# Altium footprint library acopians-powerspy-ac-power-hw-library-pcb.PcbLib: 43 footprints (part 2 of 3)
Each footprint in its own frame and in the unit in brackets; x right, y up, seen from the top. Pads: shape width x height; smd on the part's side, far side on the other; paste and mask are expansions set on the pad; w line width, h text height; cw(c..) or ccw(c..) is an arc to the next point about the centre after c.
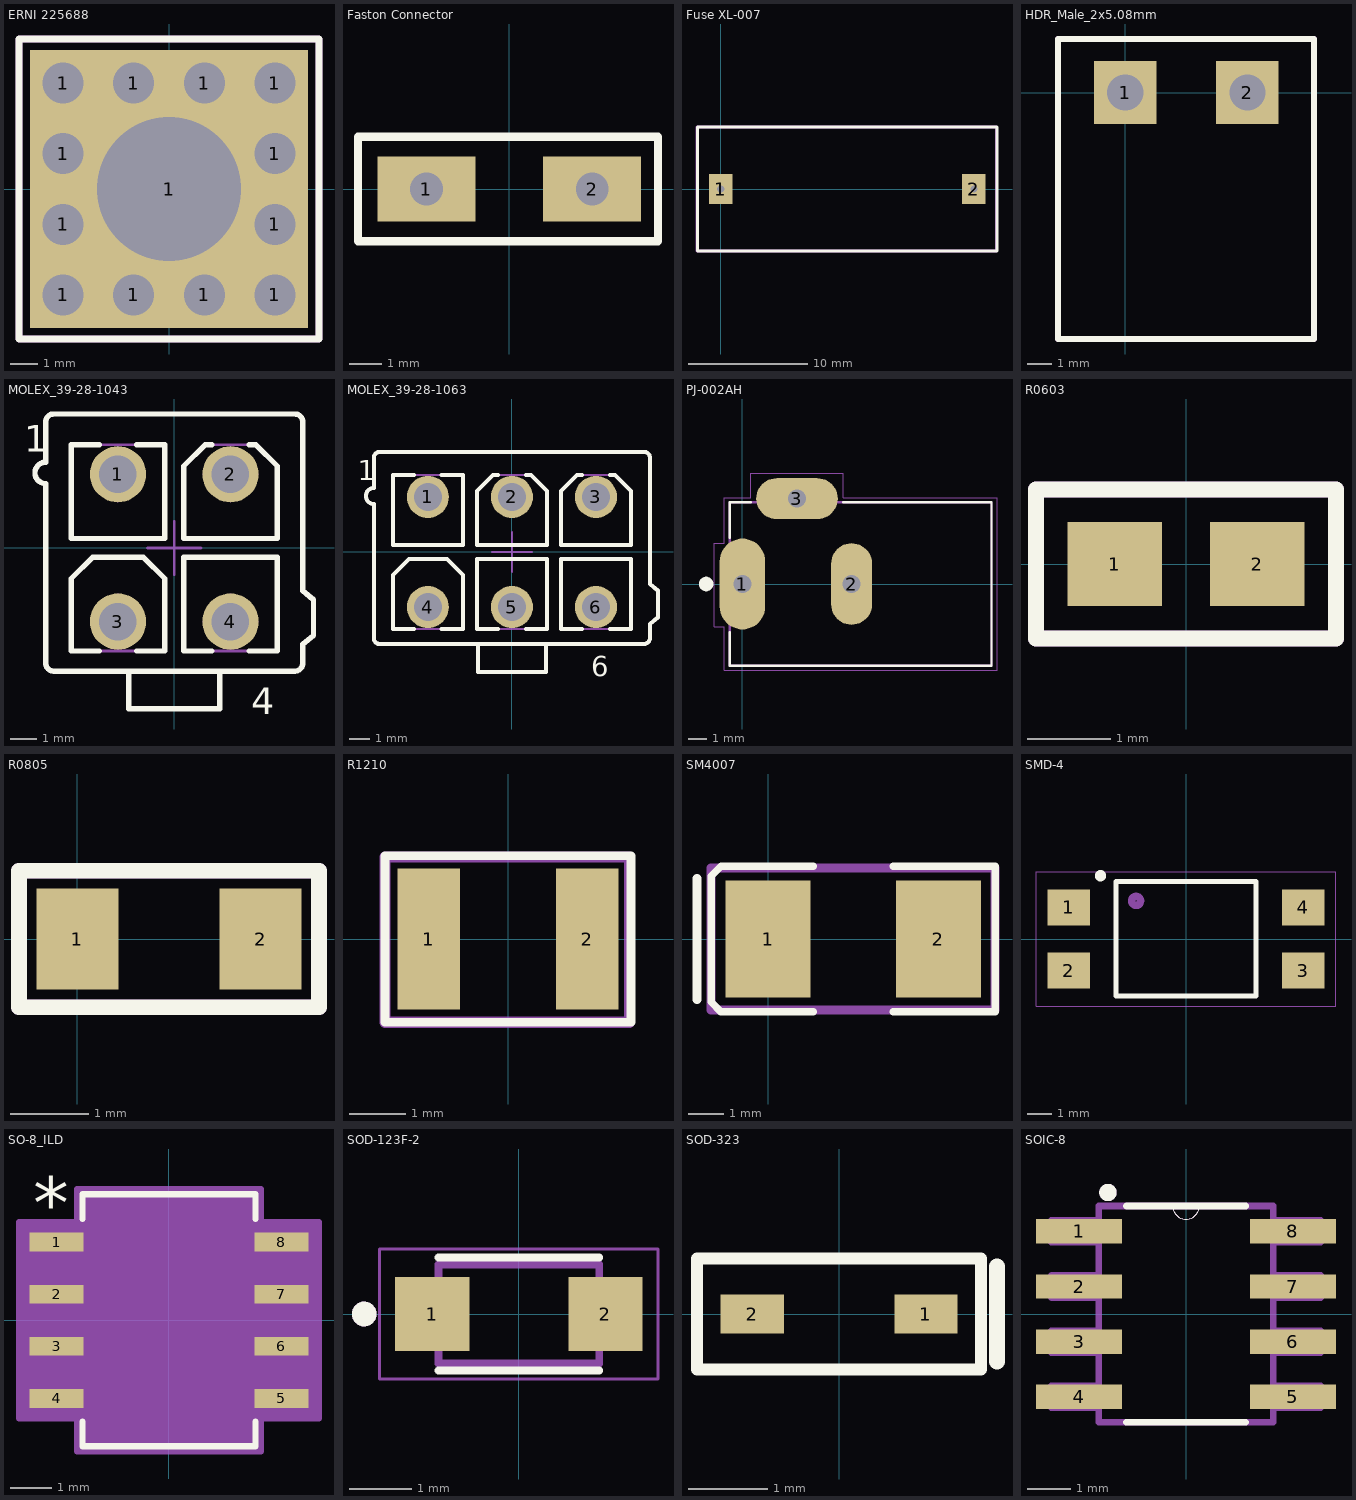
[diagram p1: the footprints below, top view; thin cyan lines are the x and y axes]

## ERNI 225688 [mm]
pads (13):
  round 2 hole 1.475: 1(-3.81,-3.81) 1(-3.81,-1.27) 1(-3.81,1.27) 1(-3.81,3.81) 1(-1.27,-3.81) 1(-1.27,3.81) 1(1.27,-3.81) 1(1.27,3.81) 1(3.81,-3.81) 1(3.81,-1.27) 1(3.81,1.27) 1(3.81,3.81)
  rect 10x10 hole 5.2 unplated: 1(0,0)
Top Overlay:
  lines w0.254: -5.4,-5.4 -5.4,5.4 5.4,5.4 5.4,-5.4 -5.4,-5.4
Mechanical 13:
  lines w0.254: -5.4,-5.4 5.4,-5.4 5.4,5.4 -5.4,5.4 -5.4,-5.4
  text ".Designator" at -0.046,-0.246 h1.2
3D body "225688_I.STEP": height 6, standoff -3.5, extent -4.5,-4.5 4.5,4.5

## Faston Connector [mm]
pads (2):
  rect 3x2 hole 1 square: 1(-2.54,0) 2(2.54,0)
Top Overlay:
  lines w0.254: -4.64,-1.6 -4.64,1.6 4.56,1.6 4.56,-1.6 -4.64,-1.6
Mechanical 13:
  text ".Designator" at 0,0.033 h1
3D body "c-726386-2-g-3d.stp": height 10.45, standoff -3.55, extent -4,-0.4 4,0.4

## Fuse XL-007 [mm]
pads (2):
  rect 2x2.5 hole 0.6 square paste-2539.97 mask+0.102: 1(0,0) 2(21.3,0)
Top Overlay:
  lines w0.254: -1.95,-5.2 23.25,-5.2 23.25,5.2 -1.95,5.2 -1.95,-5.2
Mechanical 13:
  lines w0.254: -2,-5.2 -2,5.2 23.2,5.2 23.2,-5.2 -2,-5.2
  text ".Designator" at 6.754,-0.879 h1.4
3D body "ZH242.STEP": height 11.2, standoff -5.5, extent -1.7,-4.875 23,4.875

## HDR_Male_2x5.08mm [mm]
pads (2):
  rect 2.6x2.6 hole 1.5: 1(0,0) 2(5.075,0)
Top Overlay:
  lines w0.254: -2.8,-10.25 7.85,-10.25 7.85,2.225 -2.8,2.225 -2.8,-10.25
Mechanical 13:
  text ".Designator" at 1.778,-5.207 h1.52
Mechanical 29:
  circle w0.7: c0,0 r0.292
  lines w0.254: -2.8,-10.25 -2.8,2.225 7.85,2.225 7.85,-10.25 -2.8,-10.25
  text "'.Designator'" at -0.35,-5 h1.5
3D body "Pluggable Terminal Blocks_2 vias_male.stp": height 8.51, standoff -3.49, extent -2.54,-10 7.62,2

## MOLEX_39-28-1043 [mm] "4.20mm (.165\") Pitch Mini-Fit Jr. Header, Dual Row, Vertical, without Snap-in Plastic Peg PCB Lock, 4 Circuits"
height 12.8
pads (4):
  round 2.1 hole 1.4: 1(-2.1,2.75) 2(2.1,2.75) 3(-2.1,-2.75) 4(2.1,-2.75)
Top Overlay:
  lines w0.2: -2.793,-3.85 -3.85,-3.85 -3.85,-1.15 ; -2.793,3.85 -3.85,3.85 -3.85,0.35 -0.35,0.35 -0.35,3.85 -1.407,3.85 ; -1.7,-4.6 -1.7,-6 1.7,-6 1.7,-4.6 ; -1.407,-3.85 -0.35,-3.85 -0.35,-1.15 -1.15,-0.35 -3.05,-0.35 ; 1.407,-3.85 0.35,-3.85 0.35,-0.35 3.85,-0.35 3.85,-3.85 2.793,-3.85 ; 1.407,3.85 1.15,3.85 ; 2.793,3.85 3.05,3.85 3.85,3.05 3.85,0.35 0.35,0.35 0.35,3.05 ; -3.85,-1.15 -3.05,-0.35 ; -3.85,-1.15 -3.05,-0.35 ; 0.35,3.05 1.15,3.85 ; 0.35,3.05 1.15,3.85 ; -4.8,-4.3 ccw(c-4.5,-4.3) -4.5,-4.6 4.5,-4.6 ccw(c4.5,-4.3) 4.8,-4.3 4.8,-3.6 5.2,-3.264 5.2,-1.936 4.8,-1.6 4.8,4.7 ccw(c4.5,4.7) 4.5,5 -4.5,5 ccw(c-4.5,4.7) -4.8,4.7 -4.8,3.2 ccw(c-4.8,2.8) -4.8,2.4 -4.8,-4.3
  text "4" at 2.867,-6.2 h1
  text "1" at -5.592,3.582 h1
Mechanical 8:
  lines w0.1: -3.1,-2.75 -2.1,-2.75 ; -3.1,2.75 -2.1,2.75 ; -2.1,-3.75 -2.1,-2.75 ; -2.1,-1.75 -2.1,-2.75 ; -2.1,1.75 -2.1,2.75 ; -2.1,3.75 -2.1,2.75 ; -1.1,-2.75 -2.1,-2.75 ; -1.1,2.75 -2.1,2.75 ; -1,0 0,0 ; 0,-1 0,0 ; 0,1 0,0 ; 1,0 0,0 ; 1.1,-2.75 2.1,-2.75 ; 1.1,2.75 2.1,2.75 ; 2.1,-3.75 2.1,-2.75 ; 2.1,-1.75 2.1,-2.75 ; 2.1,1.75 2.1,2.75 ; 2.1,3.75 2.1,2.75 ; 3.1,-2.75 2.1,-2.75 ; 3.1,2.75 2.1,2.75
Mechanical 13:
  text ".Designator" at -1.546,-1.146 h1.5
Mechanical 14:
  lines w0.1: -1.7,-4.6 -1.7,-6 1.7,-6 1.7,-4.6 ; -3.85,-1.15 -3.05,-0.35 ; -3.85,-1.15 -3.85,-3.85 -0.35,-3.85 -0.35,-1.15 -1.15,-0.35 -3.05,-0.35 ; -3.85,-1.15 -3.05,-0.35 ; 0.35,3.05 1.15,3.85 ; 0.35,3.05 0.35,0.35 3.85,0.35 3.85,3.05 3.05,3.85 1.15,3.85 ; 0.35,3.05 1.15,3.85 ; -4.8,-4.3 ccw(c-4.5,-4.3) -4.5,-4.6 4.5,-4.6 ccw(c4.5,-4.3) 4.8,-4.3 4.8,-3.6 5.2,-3.264 5.2,-1.936 4.8,-1.6 4.8,4.7 ccw(c4.5,4.7) 4.5,5 -4.5,5 ccw(c-4.5,4.7) -4.8,4.7 -4.8,3.2 ccw(c-4.8,2.8) -4.8,2.4 -4.8,-4.3 ; -3.85,0.35 -0.35,0.35 -0.35,3.85 -3.85,3.85 -3.85,0.35 ; 0.35,-3.85 3.85,-3.85 3.85,-0.35 0.35,-0.35 0.35,-3.85
  text "4" at 2.867,-6.2 h1
  text "1" at -5.592,3.582 h1
3D body "MOLEX_39-28-1043.stp": height 12.8, standoff -3.5, extent -5.2,-6 5.2,5

## MOLEX_39-28-1063 [mm] "4.20mm (.165\") Pitch Mini-Fit Jr. Header, Dual Row, Vertical, without Snap-in Plastic Peg PCB Lock, 6 Circuits"
height 12.8
pads (6):
  round 2.1 hole 1.4: 1(-4.2,2.75) 2(0,2.75) 3(4.2,2.75) 4(-4.2,-2.75) 5(0,-2.75) 6(4.2,-2.75)
Top Overlay:
  lines w0.2: -4.893,-3.85 -5.95,-3.85 -5.95,-1.15 -5.15,-0.35 -3.25,-0.35 -2.45,-1.15 -2.45,-3.85 -3.507,-3.85 ; -4.893,3.85 -5.95,3.85 -5.95,0.35 -2.45,0.35 -2.45,3.85 -3.507,3.85 ; -1.7,-4.6 -1.7,-6 1.7,-6 1.7,-4.6 ; -0.693,-3.85 -1.75,-3.85 -1.75,-0.35 1.75,-0.35 1.75,-3.85 0.693,-3.85 ; -0.693,3.85 -0.95,3.85 -1.75,3.05 -1.75,0.35 1.75,0.35 1.75,3.05 0.95,3.85 0.693,3.85 ; 3.507,-3.85 2.45,-3.85 2.45,-0.35 5.95,-0.35 5.95,-3.85 4.893,-3.85 ; 3.507,3.85 3.25,3.85 2.45,3.05 2.45,0.35 5.95,0.35 5.95,3.05 5.15,3.85 4.893,3.85 ; -6.9,-4.3 ccw(c-6.6,-4.3) -6.6,-4.6 6.6,-4.6 ccw(c6.6,-4.3) 6.9,-4.3 6.9,-3.6 7.3,-3.264 7.3,-1.936 6.9,-1.6 6.9,4.7 ccw(c6.6,4.7) 6.6,5 -6.6,5 ccw(c-6.6,4.7) -6.9,4.7 -6.9,3.2 ccw(c-6.9,2.8) -6.9,2.4 -6.9,-4.3
  text "6" at 3.967,-6.2 h1
  text "1" at -7.692,3.582 h1
Mechanical 8:
  lines w0.1: -5.2,-2.75 -4.2,-2.75 ; -5.2,2.75 -4.2,2.75 ; -4.2,-3.75 -4.2,-2.75 ; -4.2,-1.75 -4.2,-2.75 ; -4.2,1.75 -4.2,2.75 ; -4.2,3.75 -4.2,2.75 ; -3.2,-2.75 -4.2,-2.75 ; -3.2,2.75 -4.2,2.75 ; -1,-2.75 0,-2.75 ; -1,0 0,0 ; -1,2.75 0,2.75 ; 0,-3.75 0,-2.75 ; 0,-1.75 0,-2.75 ; 0,-1 0,0 ; 0,1 0,0 ; 0,1.75 0,2.75 ; 0,3.75 0,2.75 ; 1,-2.75 0,-2.75 ; 1,0 0,0 ; 1,2.75 0,2.75 ; 3.2,-2.75 4.2,-2.75 ; 3.2,2.75 4.2,2.75 ; 4.2,-3.75 4.2,-2.75 ; 4.2,-1.75 4.2,-2.75 ; 4.2,1.75 4.2,2.75 ; 4.2,3.75 4.2,2.75 ; 5.2,-2.75 4.2,-2.75 ; 5.2,2.75 4.2,2.75
Mechanical 13:
  text ".Designator" at -1.646,-1.046 h1.5
Mechanical 14:
  lines w0.1: -1.7,-4.6 -1.7,-6 1.7,-6 1.7,-4.6 ; -6.9,-4.3 ccw(c-6.6,-4.3) -6.6,-4.6 6.6,-4.6 ccw(c6.6,-4.3) 6.9,-4.3 6.9,-3.6 7.3,-3.264 7.3,-1.936 6.9,-1.6 6.9,4.7 ccw(c6.6,4.7) 6.6,5 -6.6,5 ccw(c-6.6,4.7) -6.9,4.7 -6.9,3.2 ccw(c-6.9,2.8) -6.9,2.4 -6.9,-4.3 ; -5.95,-3.85 -2.45,-3.85 -2.45,-1.15 -3.25,-0.35 -5.15,-0.35 -5.95,-1.15 -5.95,-3.85 ; -5.95,0.35 -2.45,0.35 -2.45,3.85 -5.95,3.85 -5.95,0.35 ; -1.75,-3.85 1.75,-3.85 1.75,-0.35 -1.75,-0.35 -1.75,-3.85 ; -1.75,0.35 1.75,0.35 1.75,3.05 0.95,3.85 -0.95,3.85 -1.75,3.05 -1.75,0.35 ; 2.45,-3.85 5.95,-3.85 5.95,-0.35 2.45,-0.35 2.45,-3.85 ; 2.45,0.35 5.95,0.35 5.95,3.05 5.15,3.85 3.25,3.85 2.45,3.05 2.45,0.35
  text "6" at 3.967,-6.2 h1
  text "1" at -7.692,3.582 h1
3D body "MOLEX_39-28-1063.stp": height 12.8, standoff -3.5, extent -7.3,-6 7.3,5

## PJ-002AH [mm]
pads (3):
  oval 2.5x5 hole 1 square: 1(0,0)
  oval 2.25x4.5 hole 1 square: 2(6,0)
  oval 4.5x2.25 hole 1 square: 3(3,4.7)
Top Overlay:
  circle w0.4: c-2,0 r0.2
  lines w0.127: -0.7,-2.65 -0.7,-4.5 13.7,-4.5 13.7,4.5 5.55,4.5 ; -0.7,2.55 -0.7,4.5 0.45,4.5
Mechanical 13:
  lines w0.127: -0.7,-4.5 13.7,-4.5 13.7,4.5 -0.7,4.5 -0.7,-4.5
  text ".Designator" at 3.054,-0.746 h1.2
Mechanical 15:
  lines w0.05: -1.55,-2.35 -1.55,2.25 -1,2.25 -1,4.75 0.45,4.75 0.45,6.1 5.55,6.1 5.55,4.75 14,4.75 14,-4.75 -1,-4.75 -1,-2.35 -1.55,-2.35
3D body "CUI_DEVICES_PJ-002AH.step": height 11.01, standoff -3.48, extent -0.723,-4.574 13.677,4.826

## R0603 [mil]
pads (2):
  rect 45x40 smd: 1(-33.97,0) 2(33.97,0)
Top Overlay:
  lines w7.5: -71.37,-35.5 -71.37,35.5 0,35.5 71.36,35.5 71.36,-35.5 0,-35.5 -71.37,-35.5
Mechanical 13:
  text ".Designator" at -300,-110.01 h60
Mechanical 29:
  lines w7.5: -71.37,-35.5 0,-35.5 71.36,-35.5 71.36,35.5 0,35.5 -71.37,35.5 -71.37,-35.5
3D body "0603 SMD Resistor.STP": height 20.39, standoff 0.71, extent -31.49,-17.71 31.5,17.72

## R0805 [mm]
pads (2):
  rect 1.05x1.3 smd: 1(0,0) 2(2.35,0)
Top Overlay:
  lines w0.2: -0.75,-0.875 3.1,-0.875 3.1,0.875 -0.75,0.875 -0.75,-0.875
Mechanical 13:
  text ".Designator" at 0.962,-0.295 h0.8
Mechanical 29:
  lines w0.2: -0.75,-0.875 -0.75,0.875 3.1,0.875 3.1,-0.875 -0.75,-0.875
  text "'.Designator'" at 0.4,-0.2 h0.6
3D body "RC0805N.step": height 0.72, standoff 0.01, extent 0.172,-0.6 2.178,0.594

## R1210 [mm]
pads (2):
  rect 1.106x2.5 smd: 1(-1.403,0) 2(1.403,0)
Top Overlay:
  lines w0.152: -2.175,-1.475 2.175,-1.475 2.175,1.475 -2.175,1.475 -2.175,-1.475
Mechanical 13:
  text ".Designator" at -1.07,-0.422 h0.8
Mechanical 29:
  lines w0.2: -2.175,-1.475 2.15,-1.475 2.15,1.45 -2.175,1.45 -2.175,-1.475
  text "'.Designator'" at -1.1,-0.325 h0.8
3D body "RC1210N.step": height 0.72, standoff 0.01, extent -1.625,-1.25 1.575,1.25

## SM4007 [mm]
pads (2):
  rect 2.4x3.3 smd: 1(0,0) 2(4.8,0)
Top Overlay:
  lines w0.2: 1.275,-2.05 -1.33,-2.05 -1.6,-1.777 -1.6,1.775 -1.325,2.05 1.275,2.05 ; 3.525,-2.05 6.4,-2.05 6.4,2.05 3.525,2.05
  lines w0.254: -2,-1.7 -2,1.7
Mechanical 13:
  lines w0.254: -1.6,-2 -1.6,2 6.4,2 6.4,-2 -1.6,-2
  text ".Designator" at 1.2,-0.467 h1
3D body "Diodo_SM4007.stp": height 2.5, standoff -0.01, extent 0.1,-1.2 4.9,1.3

## SMD-4 [mm]
pads (4):
  rect 1.7x1.45 smd: 1(-4.7,1.27) 2(-4.7,-1.27) 3(4.7,-1.27) 4(4.7,1.27)
Top Overlay:
  circle w0.254: c-3.429,2.54 r0.1
  lines w0.2: -2.8,2.29 -2.8,-2.29 2.8,-2.29 2.8,2.29 ; -2.8,2.3 2.8,2.3
Mechanical 13:
  circle w0.3: c-2.003,1.53 r0.18
  text ".Designator" at -1.246,-0.746 h1.2
Mechanical 15:
  lines w0.05: -6.02,-2.7 -6.02,2.7 6.02,2.7 6.02,-2.7 -6.02,-2.7
3D body "User Library-SFH6156.step": height 3.76, standoff 0.01, extent -4.288,-2.29 4.288,2.29

## SO-8_ILD [mil]
pads (8):
  rect 52x18 smd paste-26 mask-26: 1(-108,75) 2(-108,25) 3(-108,-25) 4(-108,-75) 5(108,-75) 6(108,-25) 7(108,25) 8(108,75)
Top Overlay:
  lines w6: -83,-97.1 -83,-121 83,-121 83,-97.1 ; -83,97.1 -83,121 83,121 83,97.1
  text "*" at -130.5,88 h50
Mechanical 13:
  lines w0: -12,116 ccw(c0,116) 12,116
  lines w1: -120,-83 -120,-67 -78,-67 -78,-83 -120,-83 ; -120,-33 -120,-17 -78,-17 -78,-33 -120,-33 ; -120,17 -120,33 -78,33 -78,17 -120,17 ; -120,67 -120,83 -78,83 -78,67 -120,67 ; -78,-116 78,-116 78,116 -78,116 -78,-116 ; 78,-83 78,-67 120,-67 120,-83 78,-83 ; 78,-33 78,-17 120,-17 120,-33 78,-33 ; 78,17 78,33 120,33 120,17 78,17 ; 78,67 78,83 120,83 120,67 78,67
  text "*" at -75.5,63 h50
Mechanical 15:
  region: -88,-94 -144,-94 -144,94 -88,94 -88,126 88,126 88,94 144,94 144,-94 88,-94 88,-126 -88,-126
  lines w6: -144,-94 -144,94 -88,94 -88,126 88,126 88,94 144,94 144,-94 88,-94 88,-126 -88,-126 -88,-94 -144,-94
3D body "SO-8_ILD.step": height 147.09, standoff 0, extent -120,-115.98 120,115.98

## SOD-123F-2 [mm]
pads (2):
  rect 1.2x1.2 smd paste-0.05: 1(-1.4,0) 2(1.4,0)
Top Overlay:
  circle w0.2: c-2.5,0 r0.1
  lines w0.127: -1.3,-0.914 1.3,-0.914 ; -1.3,0.914 1.3,0.914
Mechanical 13:
  circle w0.2: c-2.5,0 r0.1
  lines w0.127: -1.3,-0.8 -1.3,0.8 1.3,0.8 1.3,-0.8 -1.3,-0.8
Mechanical 15:
  lines w0.05: -2.25,-1.05 -2.25,1.05 2.25,1.05 2.25,-1.05 -2.25,-1.05
3D body "step_temp.STEP": height 1.2, standoff 0, extent -1.75,-0.8 1.75,0.8

## SOD-323 [mm]
pads (2):
  rect 0.8x0.5 smd: 1(1.1,0) 2(-1.1,0)
Top Overlay:
  lines w0.152: -1.8,-0.7 1.8,-0.7 1.8,0.7 -1.8,0.7 -1.8,-0.7
  lines w0.2: 2,-0.6 2,0.6
Mechanical 13:
  text ".Designator" at -0.55,-0.15 h0.6
3D body "User Library-SOD323-1.step": height 1.1, standoff 0, extent -1.3,-0.675 1.3,0.675

## SOIC-8 [mil]
pads (8):
  rect 78x22 smd: 1(-97,75) 2(-97,25) 3(-97,-25) 4(-97,-75) 5(97,-75) 6(97,-25) 7(97,25) 8(97,75)
Top Overlay:
  circle w7.87: c-70.87,110.24 r3.94
  lines w0: -12,98 ccw(c0,98) 12,98
  lines w6: -54,-98 54,-98 ; -54,98 -12,98 12,98 54,98
Mechanical 13:
  circle w7.87: c-70.87,110.24 r3.94
  lines w0: -12,98 ccw(c0,98) 12,98
  lines w6: -122,-85 -122,-65 -79,-65 -79,-85 -122,-85 ; -122,-35 -122,-15 -79,-15 -79,-35 -122,-35 ; -122,15 -122,35 -79,35 -79,15 -122,15 ; -122,65 -122,85 -79,85 -79,65 -122,65 ; -79,-98 79,-98 79,98 12,98 -12,98 -79,98 -79,-98 ; 79,-85 79,-65 122,-65 122,-85 79,-85 ; 79,-35 79,-15 122,-15 122,-35 79,-35 ; 79,15 79,35 122,35 122,15 79,15 ; 79,65 79,85 122,85 122,65 79,65
  text ".Designator" at -44.17,-19.97 h60
3D body "step_temp.STEP": height 68.9, standoff 0, extent -118.11,-96.46 118.11,96.46